# Altium footprint library Switches.PcbLib: 7 footprints
Each footprint in its own frame and in the unit in brackets; x right, y up, seen from the top. Pads: shape width x height; smd on the part's side, far side on the other; paste and mask are expansions set on the pad; w line width, h text height; cw(c..) or ccw(c..) is an arc to the next point about the centre after c.
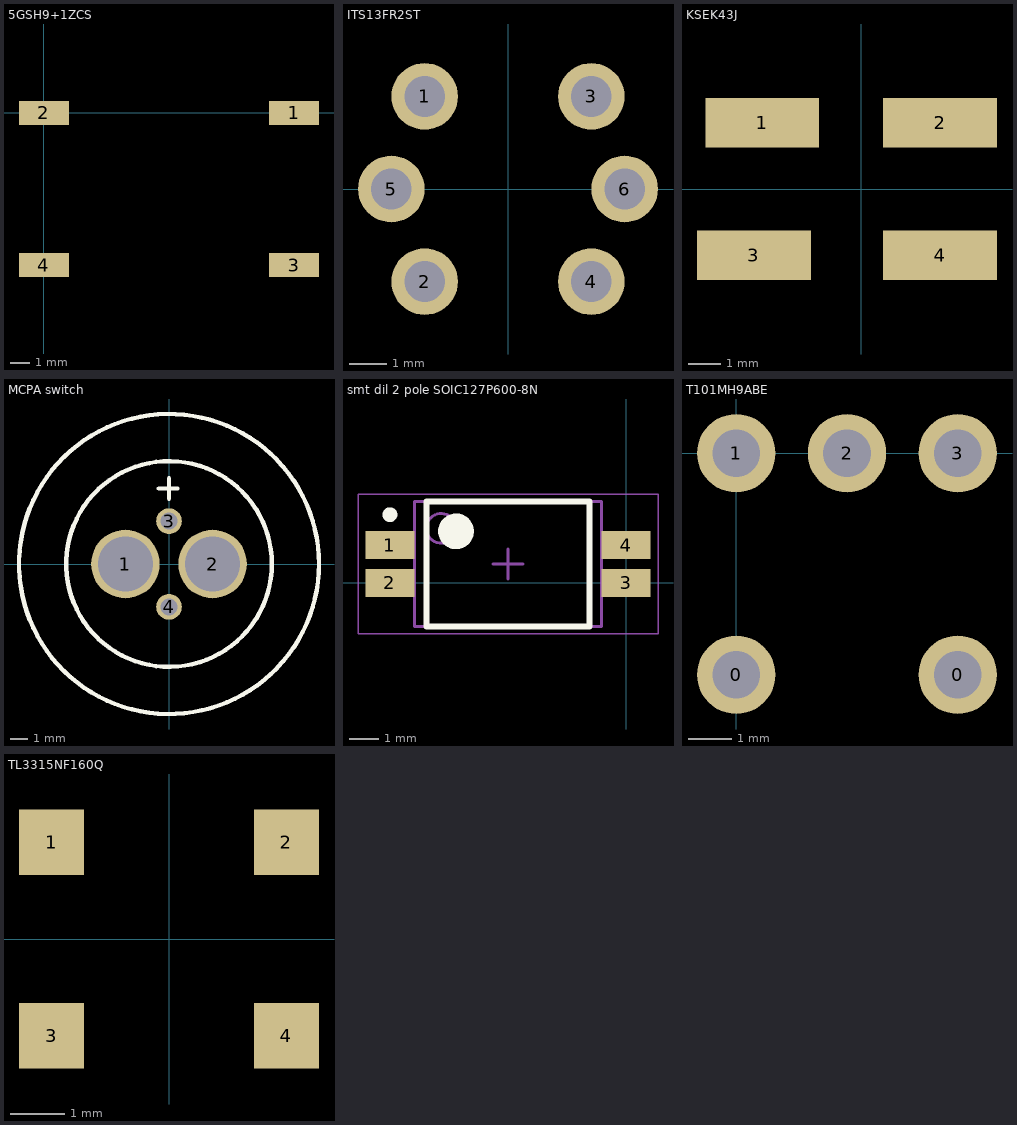
[diagram p0: the footprints below, top view; thin cyan lines are the x and y axes]

## 5GSH9+1ZCS [mm] "LED Switch"
height 8
pads (4):
  rect 2.5x1.2 smd: 1(12.5,0) 2(0,0) 3(12.5,-7.62) 4(0,-7.62)
3D body "5GSH9xxxxxxx+1ZCS.stp": height 11.82, standoff -0.05, extent -0.623,-10.91 13.577,3.29

## ITS13FR2ST [mm] "Switch-Tactile-90 deg-momentory-illuminated"
height 7
pads (6):
  round 1.8 hole 1.1: 1(-2.25,2.5) 2(-2.25,-2.5) 3(2.25,2.5) 4(2.25,-2.5) 5(-3.15,0) 6(3.15,0)
3D body "itsxxfr2sx.stp": height 7, standoff -2.5, extent -4.147,-8.375 4.153,3.525
3D body: height 0.25, standoff 0, extent 1,3.375 1.025,3.45

## KSEK43J [mil] "SPST, push to make"
pads (4):
  rect 137.8x60 smd: 1(-120,80) 2(95,80) 3(-130,-80) 4(95,-80)
3D body "CU17K11541FP.stp": height 169.69, standoff 0.57, extent -150,-124.02 117.72,124.02

## MCPA switch [mm] "push button non latching single pole illuminated 50V 125ma"
pads (4):
  round 4 hole 3.2: 1(-2.54,0) 2(2.54,0)
  round 1.5 hole 1: 3(0,2.5) 4(0,-2.5)
Top Overlay:
  circle w0.254: c0,0 r8.75
  circle w0.254: c0,0 r6
  lines w0.254: -0.6,4.4 0.5,4.4 ; 0,3.8 0,5
3D body "MCPAS6-B2-M1CES2-5L6--3DModel-STEP-56544 (2).STEP": height 18.95, standoff -9.15, extent -8.75,-8.75 8.75,8.75
3D body: height 6.47, standoff -8.92, extent 9.5,-9.5 9.5,-9.5

## smt dil 2 pole SOIC127P600-8N [mm] "2 pole surface mount switch"
height 2.4
pads (4):
  rect 1.65x0.95 smd: 1(-7.95,1.27) 2(-7.95,0) 3(0,0) 4(0,1.27)
Top Overlay:
  circle w0.6: c-5.725,1.735 r0.3
  circle w0.25: c-7.95,2.295 r0.125
  lines w0.2: -6.725,-1.465 -1.225,-1.465 -1.225,2.735 -6.725,2.735 -6.725,-1.465
Mechanical 13:
  circle w0.1: c-6.225,1.835 r0.5
  lines w0.1: -7.125,-1.465 -0.825,-1.465 -0.825,2.735 -7.125,2.735 -7.125,-1.465
Mechanical 15:
  lines w0.05: -9.025,-1.715 1.075,-1.715 1.075,2.985 -9.025,2.985 -9.025,-1.715
  lines w0.1: -4.475,0.635 -3.475,0.635 ; -3.975,0.135 -3.975,1.135
3D body "smt_dip_2way_c-1571983-03-b-3d.stp": height 2.27, standoff -0.04, extent -8.128,-1.194 0,2.464

## T101MH9ABE [mm] "Through hole, SPDT, 3A"
pads (5):
  round 1.8 hole 1.09: 0(0,-5.08) 0(5.08,-5.08) 1(0,0) 2(2.54,0) 3(5.08,0)
3D body "T101MH9ABE.stp": height 6.02, standoff -3.4, extent -1.524,-19.962 6.604,0.737

## TL3315NF160Q [mm] "SMD, Low Profile, Tactile Switch"
pads (4):
  rect 1.2x1.2 smd: 1(-2.159,1.778) 2(2.159,1.778) 3(-2.159,-1.778) 4(2.159,-1.778)
3D body "TL3315NFxxxQ.stp": height 0.6, standoff 0, extent -2.375,-2.25 2.375,2.25